# Altium schematic symbol library CN-U.FL-R-SMT(10)-duplicate.SchLib: 1 symbol
Pins are listed as number, name and electrical type; pins without a type are passive.

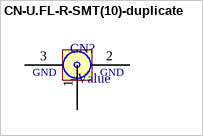
[diagram p0: symbol CN-U.FL-R-SMT(10)-duplicate]

## CN-U.FL-R-SMT(10)-duplicate
designator CN?
=Description
pins: 1, 2, 3
text: GND